# EAGLE library part B6B-PH-SM4-TB(LF)(SN) (library controller)
PH Series 2 mm Pitch 6 Position SMT Single Row Top Entry Shrouded Header
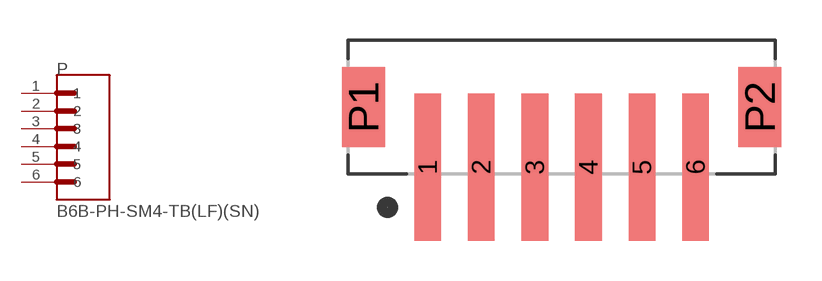
[diagram p5: symbol with the pads of JST_B6B-PH-SM4-TB(LF)(SN); footprint JST_B6B-PH-SM4-TB(LF)(SN)]

Designator prefix P

## B6B-PH-SM4-TB(LF)(SN) (DESCRIPTION: PH Series 2 mm Pitch 6 Position SMT Single Row Top Entry Shrouded Header; DIGI-KEY_PART_NUMBER: 455-1738-1-ND; DIGI-KEY_PURCHASE_URL: https://www.digikey.com/product-detail/en/jst-sales-america-inc/B6B-PH-SM4-TB_LF__SN_/455-1738-1-ND/926835?utm_source=snapeda&utm_medium=aggregator&utm_campaign=symbol; MF: JST Sales; MP: B6B-PH-SM4-TB_LF__SN_; PACKAGE: None)  [JST_B6B-PH-SM4-TB(LF)(SN)]
1  1  pas
2  2  pas
3  3  pas
4  4  pas
5  5  pas
6  6  pas

## Footprint JST_B6B-PH-SM4-TB(LF)(SN) (pad centres in mm)
smd 1 x 5.5: 1 -5,0; 2 -3,0; 3 -1,0; 4 1,0; 5 3,0; 6 5,0
smd 1.6 x 3: P1 -7.4,2.25; P2 7.4,2.25